# Altium schematic symbol library Mux_Demux_Sch.SchLib: 1 symbol
Pins are listed as number, name and electrical type; pins without a type are passive.

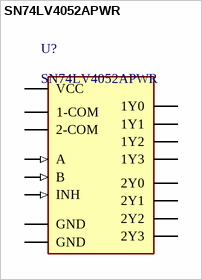
[diagram p0: symbol SN74LV4052APWR]

## SN74LV4052APWR
designator U?
Dual 4-Channel Analog Multiplexer/Demultiplexer, PW0016A, LARGE T&R; Manufacturer: Texas Instruments; VCC(Min)(V): 2; Crosstalk: Yes; Rating: Catalog; Ron(Max)(Ohms): 75; Ron(Typ)(Ohms): 25; Configuration: 2 X 1：4 MUX; VCC(Max)(V): 5.5; Bandwidth(Max)(MHz): 50; Output Type: CMOS; PackageReference: PW0016A; Operating Temperature Range(C): -40 to 85; DatasheetVersion: SCLS429J; PackageVersion: http://www.ti.com/lit/ml/mpds361/mpds361.pdf; Generic Part Number: SN74LV4052A; Code_JEDEC: MO-153
footprint PW0016A_N (SOP, 16-Leads, Body 5.1x4.5mm, Pitch 0.65mm, IPC Medium Density)
footprint PW0016A_M (SOP, 16-Leads, Body 5.1x4.5mm, Pitch 0.65mm, IPC Low Density)
footprint PW0016A_L (SOP, 16-Leads, Body 5.1x4.5mm, Pitch 0.65mm, IPC High Density)
pins: 1 2Y0, 2 2Y2, 3 2-COM, 4 2Y3, 5 2Y1, 6 INH (in), 7 GND (power), 8 GND (power), 9 B (in), 10 A (in), 11 1Y3, 12 1Y0, 13 1-COM, 14 1Y1, 15 1Y2, 16 VCC (power)